# EAGLE library part MAX30102 (library esp32-component-libraries_v192)
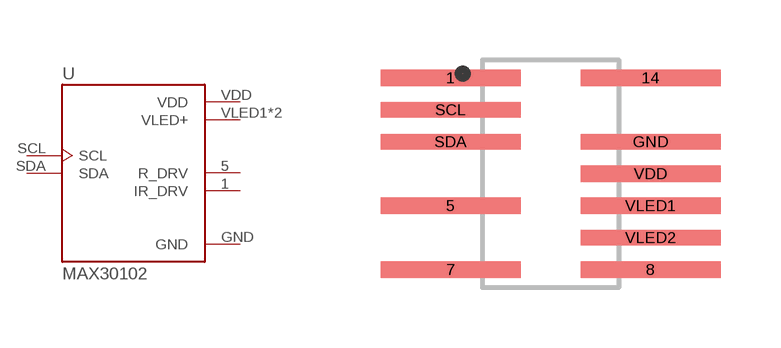
[diagram p4: symbol with the pads of MAX30102-WIDENED; footprint MAX30102-WIDENED]

Designator prefix -

## MAX30102  [MAX30102-WIDENED]
1  IR_DRV  out
5  R_DRV  out
GND  GND  pwr
SCL  SCL  in
SDA  SDA
VDD  VDD  pwr
VLED1  VLED+  pwr
VLED2  VLED+  pwr

## Footprint MAX30102-WIDENED (pad centres in mm)
smd 3.5 x 0.4: 1 -2.5,2.4; 5 -2.5,-0.8; 7 -2.5,-2.4; 8 2.5,-2.4; 14 2.5,2.4; GND 2.5,0.8; SCL -2.5,1.6; SDA -2.5,0.8; VDD 2.5,0; VLED1 2.5,-0.8; VLED2 2.5,-1.6